# Altium footprint library SC70-8.PcbLib: 1 footprints
Each footprint in its own frame and in the unit in brackets; x right, y up, seen from the top. Pads: shape width x height; smd on the part's side, far side on the other; paste and mask are expansions set on the pad; w line width, h text height; cw(c..) or ccw(c..) is an arc to the next point about the centre after c.
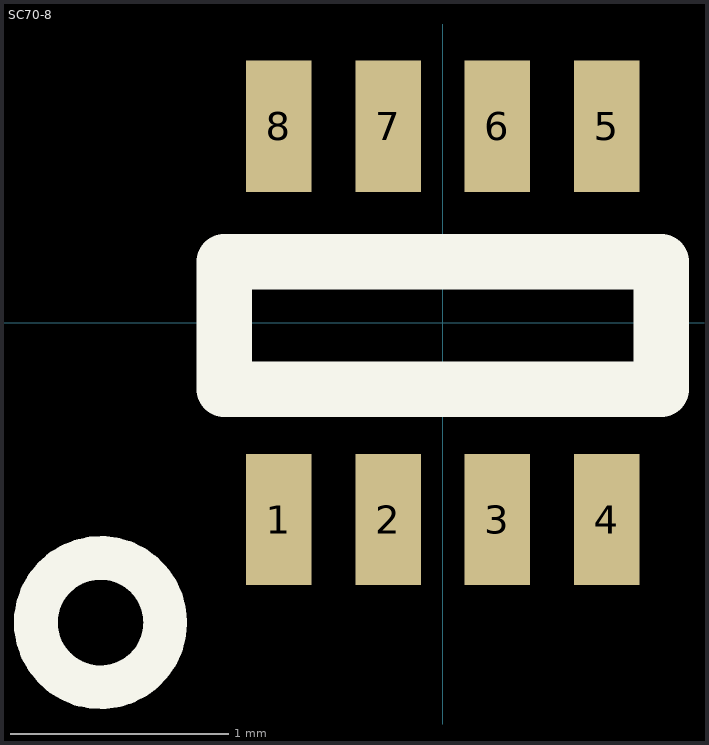
[diagram p0: the footprint, top view; thin cyan lines are the x and y axes]

## SC70-8 [mm]
height 1.1
pads (8):
  rect 0.3x0.6 smd: 1(-0.75,-0.9) 2(-0.25,-0.9) 3(0.25,-0.9) 4(0.75,-0.9) 5(0.75,0.9) 6(0.25,0.9) 7(-0.25,0.9) 8(-0.75,0.9)
Top Overlay:
  circle w0.2: c-1.566,-1.372 r0.296
  lines w0.254: -1,-0.305 -1,0.279 1,0.279 1,-0.305 -1,-0.305
3D body: height 1.1, standoff 0, extent -1.143,-0.889 1.143,0.762